# Altium footprint library con-kycon.PCBLIB: 6 footprints
Each footprint in its own frame and in the unit in brackets; x right, y up, seen from the top. Pads: shape width x height; smd on the part's side, far side on the other; paste and mask are expansions set on the pad; w line width, h text height; cw(c..) or ccw(c..) is an arc to the next point about the centre after c.
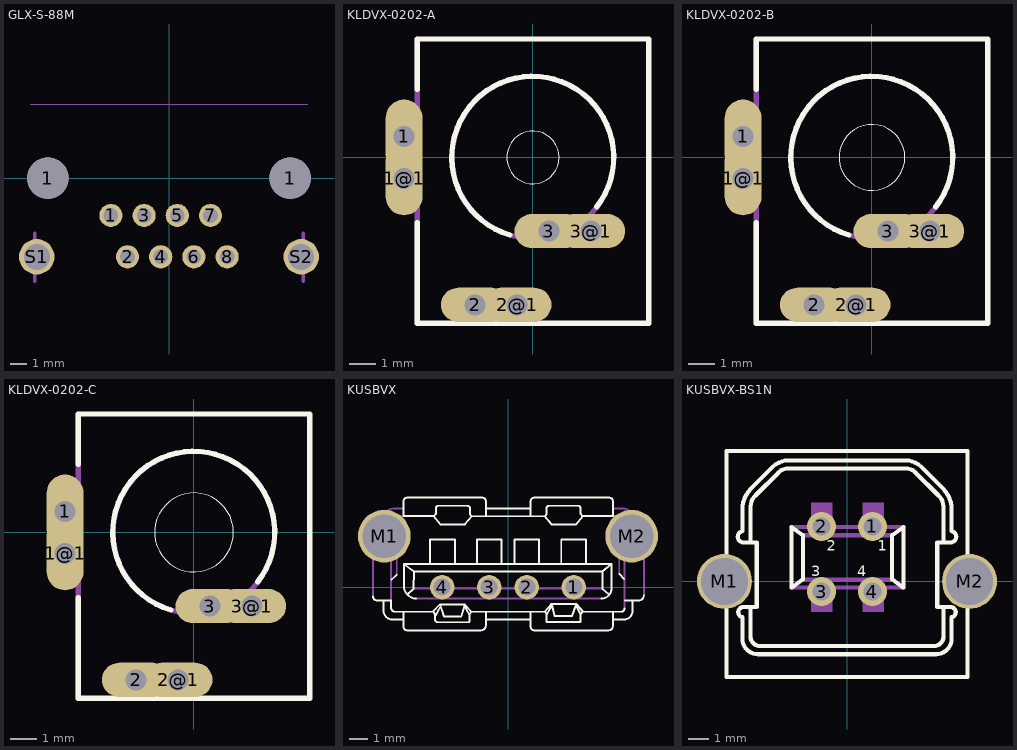
[diagram p0: the footprints below, top view; thin cyan lines are the x and y axes]

## GLX-S-88M [mil]
pads (12):
  round 100.39 hole 100.39: 1(-292.91,0) 1(292.91,0)
  round 56 hole 35.43: 1(-140.55,-90.55) 2(-100.39,-190.55) 3(-60.24,-90.55) 4(-20.08,-190.55) 5(20.08,-90.55) 6(60.24,-190.55) 7(100.39,-90.55) 8(140.55,-190.55)
  round 86 hole 62.99: S1(-319.88,-190.55) S2(319.88,-190.55)
Bottom Overlay:
  lines w8: -324.8,-250 -324.8,-310.04 324.8,-310.04 324.8,-250 ; -324.8,-130 -324.8,256.89 324.8,256.89 324.8,-130
Mechanical 1:
  lines w0: -335.91,177.95 335.91,177.95
Mechanical 16:
  lines w8: -324.8,-250.04 -324.8,-133.11 ; 324.8,-250.04 324.8,-133.11

## KLDVX-0202-A [mil]
pads (6):
  oval 55.12x110.24 hole 31.5: 1(-192.91,31.5) 1@1(-192.91,-31.5)
  oval 102.36x51.18 hole 31.5: 2(-86.61,-220.47) 2@1(-23.62,-220.47) 3(23.62,-110.24) 3@1(86.61,-110.24)
Top Overlay:
  circle w0: c0,0 r39.38
  lines w8: -173.23,-97.83 -173.23,-248.03 173.23,-248.03 173.23,177.17 -173.23,177.17 -173.23,101.97 ; -34.45,-116.14 cw(c-0.48,0.16) 95.47,-73.82
Mechanical 11:
  lines w0: -208.66,-68.9 -177.17,-68.9 -177.17,68.9 -208.66,68.9 -208.66,-68.9 ; -114.17,-236.22 3.94,-236.22 3.94,-204.72 -114.17,-204.72 -114.17,-236.22 ; -3.94,-125.98 114.17,-125.98 114.17,-94.49 -3.94,-94.49 -3.94,-125.98
Mechanical 16:
  circle w8: c0,0 r121.07
  lines w8: -173.23,-248.03 -173.23,177.17

## KLDVX-0202-B [mil]
pads (6):
  oval 55.12x110.24 hole 31.5: 1(-192.91,31.5) 1@1(-192.91,-31.5)
  oval 102.36x51.18 hole 31.5: 2(-86.61,-220.47) 2@1(-23.62,-220.47) 3(23.62,-110.24) 3@1(86.61,-110.24)
Top Overlay:
  circle w0: c0,0 r49.22
  lines w8: -173.23,-97.83 -173.23,-248.03 173.23,-248.03 173.23,177.17 -173.23,177.17 -173.23,101.97 ; -34.45,-116.14 cw(c-0.48,0.16) 95.47,-73.82
Mechanical 11:
  lines w0: -208.66,-68.9 -177.17,-68.9 -177.17,68.9 -208.66,68.9 -208.66,-68.9 ; -114.17,-236.22 3.94,-236.22 3.94,-204.72 -114.17,-204.72 -114.17,-236.22 ; -3.94,-125.98 114.17,-125.98 114.17,-94.49 -3.94,-94.49 -3.94,-125.98
Mechanical 16:
  circle w8: c0,0 r121.07
  lines w8: -173.23,-248.03 -173.23,177.17

## KLDVX-0202-C [mil]
pads (6):
  oval 55.12x110.24 hole 31.5: 1(-192.91,31.5) 1@1(-192.91,-31.5)
  oval 102.36x51.18 hole 31.5: 2(-86.61,-220.47) 2@1(-23.62,-220.47) 3(23.62,-110.24) 3@1(86.61,-110.24)
Top Overlay:
  circle w0: c0,0 r59.06
  lines w8: -173.23,-97.83 -173.23,-248.03 173.23,-248.03 173.23,177.17 -173.23,177.17 -173.23,101.97 ; -34.45,-116.14 cw(c-0.48,0.16) 95.47,-73.82
Mechanical 11:
  lines w0: -208.66,-68.9 -177.17,-68.9 -177.17,68.9 -208.66,68.9 -208.66,-68.9 ; -114.17,-236.22 3.94,-236.22 3.94,-204.72 -114.17,-204.72 -114.17,-236.22 ; -3.94,-125.98 114.17,-125.98 114.17,-94.49 -3.94,-94.49 -3.94,-125.98
Mechanical 16:
  circle w8: c0,0 r121.07
  lines w8: -173.23,-248.03 -173.23,177.17

## KUSBVX [mm]
pads (6):
  round 1.3 hole 0.9: 1(3.5,0) 2(1,0) 3(-1,0) 4(-3.5,0)
  round 2.8 hole 2.3: M1(-6.57,2.71) M2(6.57,2.71)
Top Overlay:
  lines w0.102: -7.175,-0.493 ccw(c-6.961,-0.493) -6.961,-0.707 -6.211,-0.707 -6.211,-1.092 ccw(c-5.997,-1.092) -5.997,-1.307 -3.962,-1.307 ; -6.618,-0.728 -6.618,-1.242 ccw(c-6.147,-1.242) -6.147,-1.713 -5.547,-1.713 ; -6.19,0.407 -5.911,0.664 ; -5.547,-1.307 -5.547,-1.713 ; -5.547,3.77 -5.547,4.583 cw(c-5.376,4.583) -5.376,4.755 -1.349,4.755 cw(c-1.349,4.584) -1.178,4.583 -1.178,3.77 ; -5.547,3.791 -3.919,3.791 -3.834,3.898 -3.834,4.198 cw(c-3.705,4.198) -3.705,4.326 -2.163,4.326 cw(c-2.163,4.176) -2.013,4.177 -2.013,3.855 -1.928,3.77 ; -5.333,-0.364 -5.012,-0.086 -4.99,0.835 ; -4.883,-0.6 cw(c-4.883,0.043) -5.526,0.043 -5.526,1.221 ; -4.134,1.264 -4.134,2.527 -2.806,2.527 -2.806,1.264 ; -3.962,-1.285 -3.619,-0.921 -2.292,-0.921 -1.949,-1.307 ; -3.941,3.77 -3.598,3.341 -2.292,3.341 -1.928,3.77 ; -3.855,-1.499 -3.598,-1.05 ; -3.598,-0.942 -3.405,-1.564 -2.485,-1.564 -2.313,-1.007 -2.056,-1.456 ; -1.671,1.242 -1.649,1.242 -1.649,2.527 -0.343,2.527 -0.343,1.285 ; -1.157,-1.713 1.199,-1.713 ; -1.157,4.177 1.199,4.177 ; 0.343,1.264 0.343,2.527 1.649,2.527 1.649,1.242 ; 1.199,-1.307 1.199,-1.713 ; 2.056,-1.456 2.335,-0.942 2.463,-1.521 3.405,-1.521 3.619,-0.942 ; 2.827,1.242 2.827,2.527 4.134,2.527 4.134,1.242 ; 3.598,-0.964 3.855,-1.435 ; 3.962,3.77 3.619,3.341 2.313,3.341 1.949,3.77 ; 4.969,-0.6 ccw(c4.969,-0.064) 5.504,-0.064 5.504,1.221 5.483,1.221 ; 5.355,-0.386 5.012,-0.086 5.012,0.835 ; 5.911,0.707 6.168,0.428 ; 6.19,-1.135 cw(c6.018,-1.135) 6.019,-1.307 5.569,-1.307 ; 6.211,-0.707 6.939,-0.707 ccw(c6.939,-0.428) 7.218,-0.428 ; 6.618,-0.728 6.618,-1.264 cw(c6.168,-1.264) 6.168,-1.713 5.569,-1.713 ; -5.547,-1.713 -5.547,-2.12 ccw(c-5.376,-2.12) -5.376,-2.292 -1.435,-2.292 ccw(c-1.435,-2.035) -1.178,-2.035 -1.178,-1.307 ; -5.526,1.221 5.483,1.221 ; -5.526,1.221 -4.99,0.835 ; -4.99,0.835 5.012,0.835 ; -3.962,-1.307 -3.962,-1.307 ; -3.962,-1.307 -3.877,-1.456 -3.877,-1.713 ccw(c-3.727,-1.713) -3.727,-1.863 -2.099,-1.863 ccw(c-2.099,-1.82) -2.056,-1.82 -2.056,-1.456 ; -2.056,-1.456 -1.949,-1.307 ; -1.949,-1.307 -1.178,-1.307 ; -1.928,3.77 -1.178,3.77 ; -1.178,-1.307 1.949,-1.307 ; -1.178,3.77 1.199,3.77 ; 1.199,-1.713 1.199,-2.099 ccw(c1.392,-2.099) 1.392,-2.292 5.355,-2.292 ccw(c5.355,-2.077) 5.569,-2.077 5.569,-1.713 ; 1.199,3.77 1.199,4.177 ; 1.199,3.77 1.949,3.77 ; 1.199,4.177 1.199,4.562 cw(c1.392,4.562) 1.392,4.755 5.397,4.755 cw(c5.397,4.583) 5.569,4.583 5.569,3.791 3.941,3.791 3.855,3.898 3.855,4.198 ccw(c3.727,4.198) 3.727,4.326 2.185,4.326 ccw(c2.185,4.177) 2.035,4.177 2.035,3.855 1.949,3.77 ; 1.949,-1.307 2.292,-0.9 3.641,-0.9 3.984,-1.307 ; 1.949,-1.307 2.035,-1.392 2.035,-1.842 3.855,-1.842 3.855,-1.435 ; 3.855,-1.435 3.984,-1.307 ; 3.984,-1.307 5.569,-1.307 ; 5.012,0.835 5.483,1.221 ; 5.569,-1.713 5.569,-1.307
Mechanical 16:
  lines w0.102: -7.175,-0.493 -7.175,2.956 cw(c-6.982,2.956) -6.982,3.148 -6.211,3.148 ; -6.618,3.148 -6.618,3.619 cw(c-6.061,3.619) -6.061,4.177 -5.547,4.177 ; -6.211,-0.707 -6.211,2.077 ; -5.911,0.664 -5.911,1.799 -6.211,2.077 ; -5.547,3.77 -5.997,3.77 ccw(c-5.997,3.555) -6.211,3.555 -6.211,2.077 ; -5.012,-0.086 5.012,-0.086 ; -4.883,-0.6 4.969,-0.6 ; 5.569,3.791 5.997,3.791 cw(c5.997,3.598) 6.19,3.598 6.19,-1.135 ; 5.612,4.177 6.125,4.177 cw(c6.125,3.705) 6.597,3.705 6.597,3.17 ; 5.911,0.707 5.911,1.756 6.168,2.013 ; 6.211,3.148 7.004,3.148 cw(c7.004,2.934) 7.218,2.934 7.218,-0.428

## KUSBVX-BS1N [mil]
pads (6):
  round 56 hole 35.43: 1(49.21,106.3) 2(-49.21,106.3) 3(-49.21,-19.69) 4(49.21,-19.69)
  round 106.3 hole 90.55: M1(-237.01,0) M2(237.01,0)
Top Overlay:
  lines w8: -188.42,75.37 -200.32,75.37 cw(c-200.32,86.37) -202.3,97.19 -202.3,138.83 cw(c-148.07,140.14) -186.43,178.5 -142.8,222.13 cw(c-113.04,190.9) -113.05,234.04 113.05,234.04 cw(c113.04,190.9) 142.8,222.13 186.43,178.5 cw(c148.07,140.14) 202.3,138.83 202.3,97.19 cw(c200.32,86.37) 200.32,75.37 188.42,75.37 ; -186.43,-51.57 -186.43,-107.1 ccw(c-168.58,-107.1) -168.58,-124.95 168.58,-124.95 ccw(c168.58,-107.1) 186.43,-107.1 186.43,-51.57 ; -233.27,-184.84 -233.27,252.17 233.27,252.17 233.27,-184.84 -233.27,-184.84 ; -202.3,-111.07 -202.3,-69.42 cw(c-200.32,-59.6) -200.32,-49.58 -174.54,-49.58 -174.54,75.37 -186.43,75.37 -186.43,144.78 cw(c-157.46,144.78) -176.52,166.6 -132.89,210.24 cw(c-115.04,194.36) -113.05,218.17 113.05,218.17 cw(c115.04,194.36) 132.89,210.24 176.52,166.6 cw(c157.46,144.78) 186.43,144.78 186.43,75.37 174.54,75.37 174.54,-49.58 200.32,-49.58 cw(c200.32,-59.6) 202.3,-69.42 202.3,-111.07 cw(c172.55,-111.07) 172.55,-140.82 -172.55,-140.82 cw(c-172.55,-111.07) -202.3,-111.07 ; -107.1,-11.9 -107.1,105.12 -85.28,89.25 -85.28,3.97 -107.1,-11.9 ; 87.27,3.97 87.27,89.25 109.08,105.12 109.08,-11.9 87.27,3.97
  text "1" at 59.06,59.06 h20.4
  text "2" at -39.37,59.06 h20.4
  text "3" at -68.9,9.84 h20.4
  text "4" at 19.69,9.84 h20.4
Mechanical 16:
  rectangle: -69.42,105.12 -27.77,152.72
  rectangle: 29.75,105.12 71.4,152.72
  rectangle: -69.42,-59.5 -27.77,-11.9
  rectangle: 29.75,-59.5 71.4,-11.9
  lines w8: -107.1,-11.9 109.08,-11.9 ; -107.1,105.12 109.08,105.12 ; -85.28,3.97 87.27,3.97 ; -85.28,89.25 87.27,89.25